# EAGLE library part PMS7003 (library Amphenol)
2x5 header 1.27mm pitch This is a library for Amphenol FCI 2x5 header with 1.27mm pitch used on Plant Tower's PMS7003 PM2.5 laser sensor. MPN: 20021311-00010T4LF Datasheet: http://www.mouser.com/ds/2/18/20021311-974469.pdf Designed by Akram Ali https://github.com/AKstudios
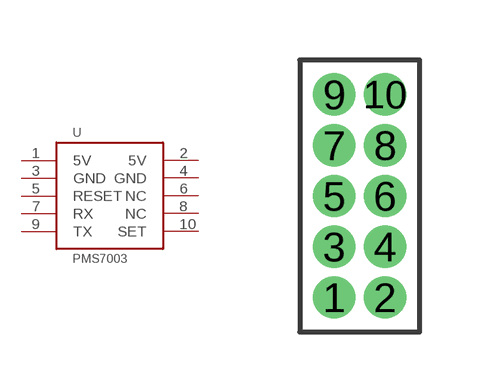
[diagram p0: symbol with the pads of PMS7003_RECEPTACLE_1.27MM_2X5; footprint PMS7003_RECEPTACLE_1.27MM_2X5]

Designator prefix -

## PMS7003  [PMS7003_RECEPTACLE_1.27MM_2X5]
1  5V
2  5V
3  GND
4  GND
5  RESET
6  NC
7  RX
8  NC
9  TX
10  SET

## Footprint PMS7003_RECEPTACLE_1.27MM_2X5 (pad centres in mm)
drill 0.55 pad 0.95: 1 4.865,4.865; 2 6.135,4.865; 3 4.865,6.135; 4 6.135,6.135; 5 4.865,7.405; 6 6.135,7.405; 7 4.865,8.675; 8 6.135,8.675; 9 4.865,9.945; 10 6.135,9.945